# Altium schematic symbol library Micron.SchLib: 1 symbol
Pins are listed as number, name and electrical type; pins without a type are passive.

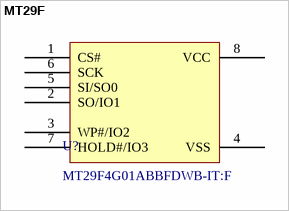
[diagram p0: symbol MT29F]

## MT29F
designator U?, comment MT29F4G01ABBFDWB-IT:F
pins: 1 CS#, 2 SO/IO1, 3 WP#/IO2, 4 VSS, 5 SI/SO0, 6 SCK, 7 HOLD#/IO3, 8 VCC